# Altium footprint library pcb_Sensor.PcbLib: 5 footprints
Each footprint in its own frame and in the unit in brackets; x right, y up, seen from the top. Pads: shape width x height; smd on the part's side, far side on the other; paste and mask are expansions set on the pad; w line width, h text height; cw(c..) or ccw(c..) is an arc to the next point about the centre after c.
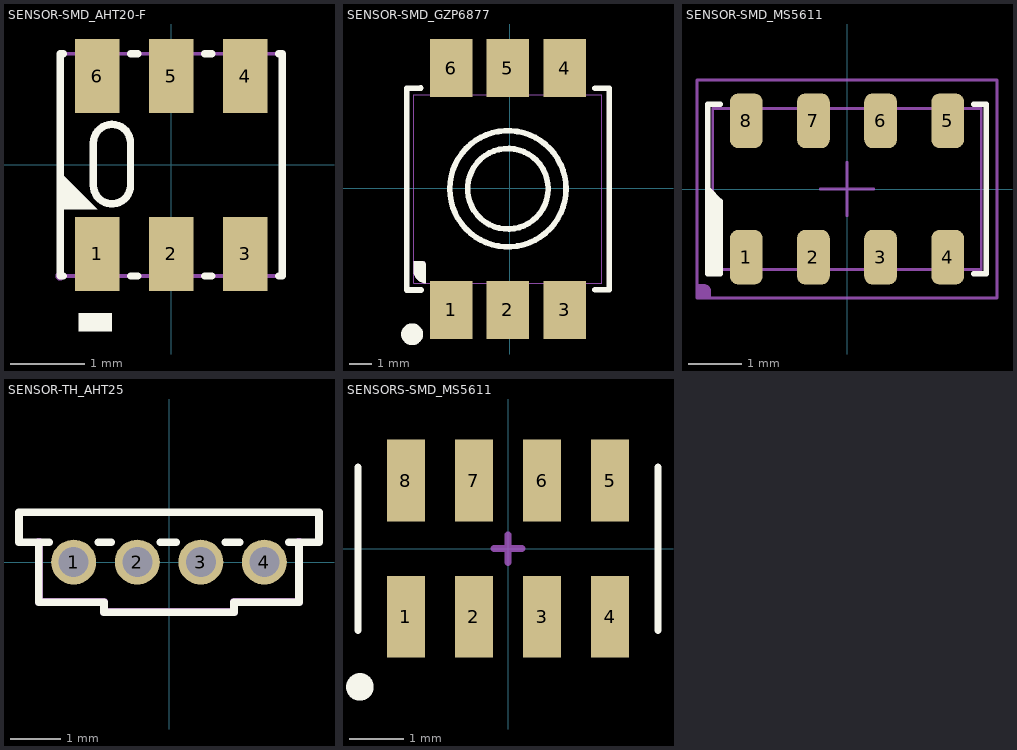
[diagram p0: the footprints below, top view; thin cyan lines are the x and y axes]

## SENSOR-SMD_AHT20-F [mm]
pads (6):
  rect 0.6x1 smd paste+0 mask+0.05: 1(-1,-1.2) 2(0,-1.2) 3(1,-1.2) 4(1,1.2) 5(0,1.2) 6(-1,1.2)
Top Overlay:
  region: -0.8,-2.25 -0.8,-2 -1.25,-2 -1.25,-2.25
  region: -1.5,-0.6 -1,-0.6 -1.5,-0.1
  lines w0.1: -1.454,-1.5 -1.5,-1.5 -1.5,1.5 -1.454,1.5 ; -0.546,-1.5 -0.454,-1.5 ; -0.546,1.5 -0.454,1.5 ; 0.454,-1.5 0.546,-1.5 ; 0.454,1.5 0.546,1.5 ; 1.454,-1.5 1.5,-1.5 1.5,1.5 1.454,1.5 ; -1.05,-0.275 ccw(c-0.8,-0.275) -0.55,-0.275 -0.55,0.3 ccw(c-0.8,0.297) -1.051,0.299 -1.05,-0.275
Mechanical 15:
  region: -1.2,-1.275 -1.2,-0.725 -0.8,-0.725 -0.8,-1.275
  region: -0.2,-1.275 -0.2,-0.725 0.2,-0.725 0.2,-1.275
  region: 0.8,-1.275 0.8,-0.725 1.2,-0.725 1.2,-1.275
  region: 0.8,0.725 0.8,1.275 1.2,1.275 1.2,0.725
  region: -0.2,0.725 -0.2,1.275 0.2,1.275 0.2,0.725
  region: -1.2,0.725 -1.2,1.275 -0.8,1.275 -0.8,0.725
  region: -1.5,-1.44 -1.525,-1.44 -1.56,-1.475 -1.56,-1.525 -1.525,-1.56 -1.5,-1.56 -1.475,-1.56 -1.44,-1.525 -1.44,-1.475 -1.475,-1.44
  lines w0.051: -1.5,-1.5 -1.5,1.5 1.5,1.5 1.5,-1.5 -1.5,-1.5
Mechanical 16:
  text ".Designator" at 0,0 h1
3D body "3D_PCB1_2024-05-11.step": height 1.02, standoff 0.02, extent -1.5,-1.5 1.5,1.5

## SENSOR-SMD_GZP6877 [mm]
pads (6):
  rect 1.9x2.6 smd paste+0 mask+0.051: 1(-2.624,-5.431) 2(-0.084,-5.431) 3(2.456,-5.431) 4(2.456,5.369) 5(-0.084,5.369) 6(-2.624,5.369)
Top Overlay:
  circle w0.6: c-4.364,-6.521 r0.187
  circle w0.254: c-0.084,-0.021 r2.594
  circle w0.254: c-0.084,-0.021 r1.8
  region: -4.284,-3.261 -4.284,-3.691 -4.284,-3.798 -4.202,-3.997 -4.05,-4.149 -3.851,-4.231 -3.744,-4.231 -3.744,-3.411 -3.744,-3.381 -3.767,-3.326 -3.809,-3.284 -3.864,-3.261 -3.894,-3.261
  lines w0.254: -3.984,4.479 -4.605,4.468 -4.605,-4.541 -3.965,-4.541 ; 3.81,-4.531 4.445,-4.531 4.445,4.468 3.81,4.468
Mechanical 6:
  region: -4.284,-3.261 -4.284,-3.691 -4.284,-3.798 -4.202,-3.997 -4.05,-4.149 -3.851,-4.231 -3.744,-4.231 -3.744,-3.411 -3.744,-3.381 -3.767,-3.326 -3.809,-3.284 -3.864,-3.261 -3.894,-3.261
Mechanical 15:
  region: -4.284,-6.271 -4.309,-6.271 -4.344,-6.306 -4.344,-6.356 -4.309,-6.391 -4.284,-6.391 -4.259,-6.391 -4.224,-6.356 -4.224,-6.306 -4.259,-6.271
  region: 3.206,4.159 1.706,4.159 1.706,5.079 3.206,5.079
  region: 3.206,5.069 1.706,5.069 1.706,6.269 3.206,6.269
  region: 0.666,4.159 -0.834,4.159 -0.834,5.079 0.666,5.079
  region: 0.666,5.069 -0.834,5.069 -0.834,6.269 0.666,6.269
  region: -1.874,4.159 -3.374,4.159 -3.374,5.079 -1.874,5.079
  region: -1.874,5.069 -3.374,5.069 -3.374,6.269 -1.874,6.269
  region: 3.206,-5.141 1.706,-5.141 1.706,-4.221 3.206,-4.221
  region: 3.206,-6.331 1.706,-6.331 1.706,-5.131 3.206,-5.131
  region: 0.666,-5.141 -0.834,-5.141 -0.834,-4.221 0.666,-4.221
  region: 0.666,-6.331 -0.834,-6.331 -0.834,-5.131 0.666,-5.131
  region: -1.874,-5.141 -3.374,-5.141 -3.374,-4.221 -1.874,-4.221
  region: -1.874,-6.331 -3.374,-6.331 -3.374,-5.131 -1.874,-5.131
  lines w0.051: -4.284,-4.231 4.116,-4.231 4.116,4.169 -4.284,4.169 -4.284,-4.231
Mechanical 16:
  text ".Designator" at 0,0 h1
3D body "3D_PCB1_2024-05-11.step": height 12.58, standoff 0, extent -4.2,-6.3 4.2,6.3

## SENSOR-SMD_MS5611 [mil]
height 39.37
pads (8):
  rrect50% 24x40 smd: 1(-73.82,-50) 2(-24.61,-50) 3(24.61,-50) 4(73.82,-50) 5(73.82,50) 6(24.61,50) 7(-24.61,50) 8(-73.82,50)
Top Overlay:
  region: -102,-62 -102,0 -93,-9 -93,-62
  lines w4: -102,0 -93,-9 -93,-62 -102,-62 -102,62 -93,62 ; 93,-62 102,-62 102,62 93,62
Mechanical 13:
  lines w2: -19.68,0 19.68,0 ; 0,-19.68 0,19.68 ; -98.43,-59.06 -98.43,59.06 98.43,59.06 98.43,-59.06 -98.43,-59.06
Mechanical 14:
  region: -110,-80 -110,-70 -105,-70 -104.01,-70 -102.17,-70.76 -100.76,-72.17 -100,-74.01 -100,-75 -100,-80
  lines w2: -110,-80 -110,80 110,80 110,-80 -110,-80
Mechanical 16:
  text ".Designator" at 0,0 h39.37
3D body "User Library-CRYSTALSMD5X32.STEP": height 39.37, standoff 0, extent -98.43,-62.98 98.42,63

## SENSOR-TH_AHT25 [mm]
pads (4):
  round 0.9 hole 0.6: 1(-1.905,0) 2(-0.635,0) 3(0.635,0) 4(1.905,0)
Top Overlay:
  lines w0.152: -2.601,0.4 -2.601,-0.8 -1.3,-0.8 -1.3,-1 1.3,-1 1.3,-0.8 2.6,-0.8 2.6,0.4 ; -2.391,0.4 -3,0.4 -3,1 3,1 3,0.4 2.6,0.4 ; -1.419,0.4 -1.151,0.4 ; -0.179,0.4 0.149,0.4 ; 1.121,0.4 1.419,0.4 ; 2.391,0.4 2.6,0.4
Mechanical 6:
  region: -2.525,0.4 -2.525,-0.724 -1.3,-0.724 -1.285,-0.724 -1.257,-0.736 -1.236,-0.757 -1.224,-0.785 -1.224,-0.8 -1.224,-0.924 1.224,-0.924 1.224,-0.8 1.224,-0.785 1.236,-0.757 1.257,-0.736 1.285,-0.724 1.3,-0.724 2.524,-0.724 2.524,0.4 2.524,0.431 2.569,0.476 2.631,0.476 2.676,0.431 2.676,0.4 2.676,-0.8 2.676,-0.815 2.664,-0.843 2.643,-0.864 2.615,-0.876 2.6,-0.876 1.376,-0.876 1.376,-1 1.376,-1.015 1.364,-1.043 1.343,-1.064 1.315,-1.076 1.3,-1.076 -1.3,-1.076 -1.315,-1.076 -1.343,-1.064 -1.364,-1.043 -1.376,-1.015 -1.376,-1 -1.376,-0.876 -2.601,-0.876 -2.617,-0.876 -2.644,-0.864 -2.666,-0.843 -2.677,-0.815 -2.677,-0.8 -2.677,0.4 -2.677,0.431 -2.633,0.476 -2.57,0.476 -2.525,0.431
Mechanical 15:
  region: 1.705,0.2 2.105,0.2 2.105,-0.2 1.705,-0.2
  region: 0.435,0.2 0.835,0.2 0.835,-0.2 0.435,-0.2
  region: -0.835,0.2 -0.435,0.2 -0.435,-0.2 -0.835,-0.2
  region: -2.105,0.2 -1.705,0.2 -1.705,-0.2 -2.105,-0.2
  lines w0.051: -3,0.4 -3,1 3,1 3,0.4 2.6,0.4 2.6,-0.8 1.3,-0.8 1.3,-1 -1.3,-1 -1.3,-0.8 -2.6,-0.8 -2.6,0.4 -3,0.4
Mechanical 16:
  text ".Designator" at 0,0 h1
3D body "3D_PCB1_2024-05-11.step": height 14.72, standoff -2.98, extent -3,-1 3,1

## SENSORS-SMD_MS5611 [mm] "气压传感芯片"
pads (8):
  rect 0.7x1.5 smd: 1(-1.875,-1.25) 2(-0.625,-1.25) 3(0.625,-1.25) 4(1.875,-1.25) 5(1.875,1.25) 6(0.625,1.25) 7(-0.625,1.25) 8(-1.875,1.25)
Top Overlay:
  circle w0.454: c-2.718,-2.54 r0.025
  lines w0.127: -2.754,-1.5 -2.754,1.5 ; 2.754,-1.5 2.754,1.5
Mechanical 15:
  lines w0.127: -0.254,0 0.254,0 ; 0,-0.254 0,0.254
Mechanical 16:
  text ".Designator" at 0,0 h1
3D body "SM5611.STEP": height 1, standoff -0.01, extent -2.5,-1.5 2.5,1.501